# Altium footprint library SM_SC70-6_M.PcbLib: 1 footprints
Each footprint in its own frame and in the unit in brackets; x right, y up, seen from the top. Pads: shape width x height; smd on the part's side, far side on the other; paste and mask are expansions set on the pad; w line width, h text height; cw(c..) or ccw(c..) is an arc to the next point about the centre after c.
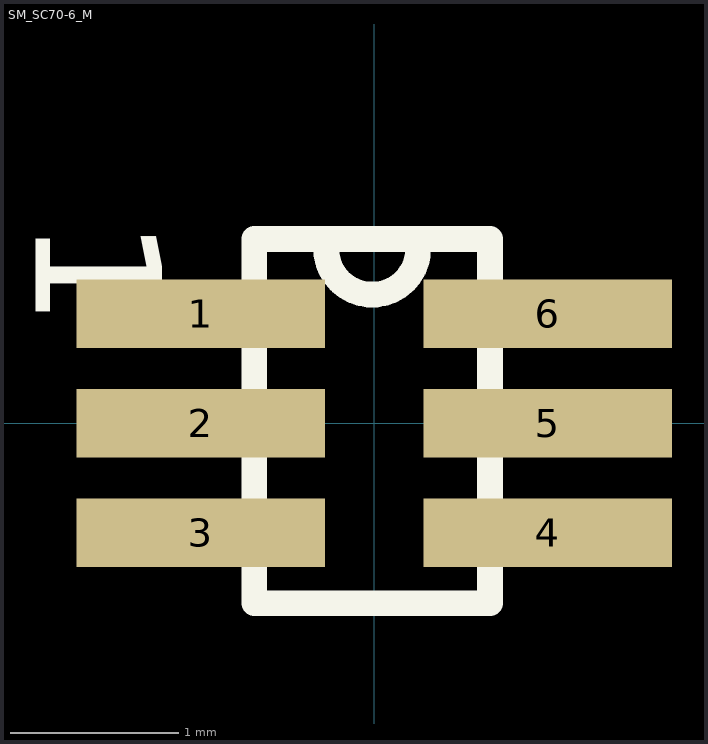
[diagram p0: the footprint, top view; thin cyan lines are the x and y axes]

## SM_SC70-6_M [mil]
pads (6):
  rect 58x16 smd: 1(-40.5,25.58) 2(-40.5,0) 3(-40.5,-25.58) 4(40.5,-25.58) 5(40.5,0) 6(40.5,25.58)
Top Overlay:
  lines w6: -11,43 ccw(c-0.5,40.73) 10,43 ; -28,-42 27,-42 27,43 -28,43 -28,-42
  text "1" at -79,48 h29.53
Mechanical 1:
  lines w1: -12,42.5 ccw(c0,42.5) 12,42.5 ; -47.5,-31.58 -47.5,-19.58 -28,-19.58 -28,-31.58 -47.5,-31.58 ; -47.5,-6 -47.5,6 -28,6 -28,-6 -47.5,-6 ; -47.5,19.58 -47.5,31.58 -28,31.58 -28,19.58 -47.5,19.58 ; -28,-42.5 28,-42.5 28,42.5 -28,42.5 -28,-42.5 ; 28,-31.58 28,-19.58 47.5,-19.58 47.5,-31.58 28,-31.58 ; 28,-6 28,6 47.5,6 47.5,-6 28,-6 ; 28,19.58 28,31.58 47.5,31.58 47.5,19.58 28,19.58
3D body: height 43.31, standoff 0, extent -27.56,-43.3 27.56,43.31